# Altium integrated library esp32d.IntLib: 29 symbols
Pins are listed as number, name and electrical type; pins without a type are passive.

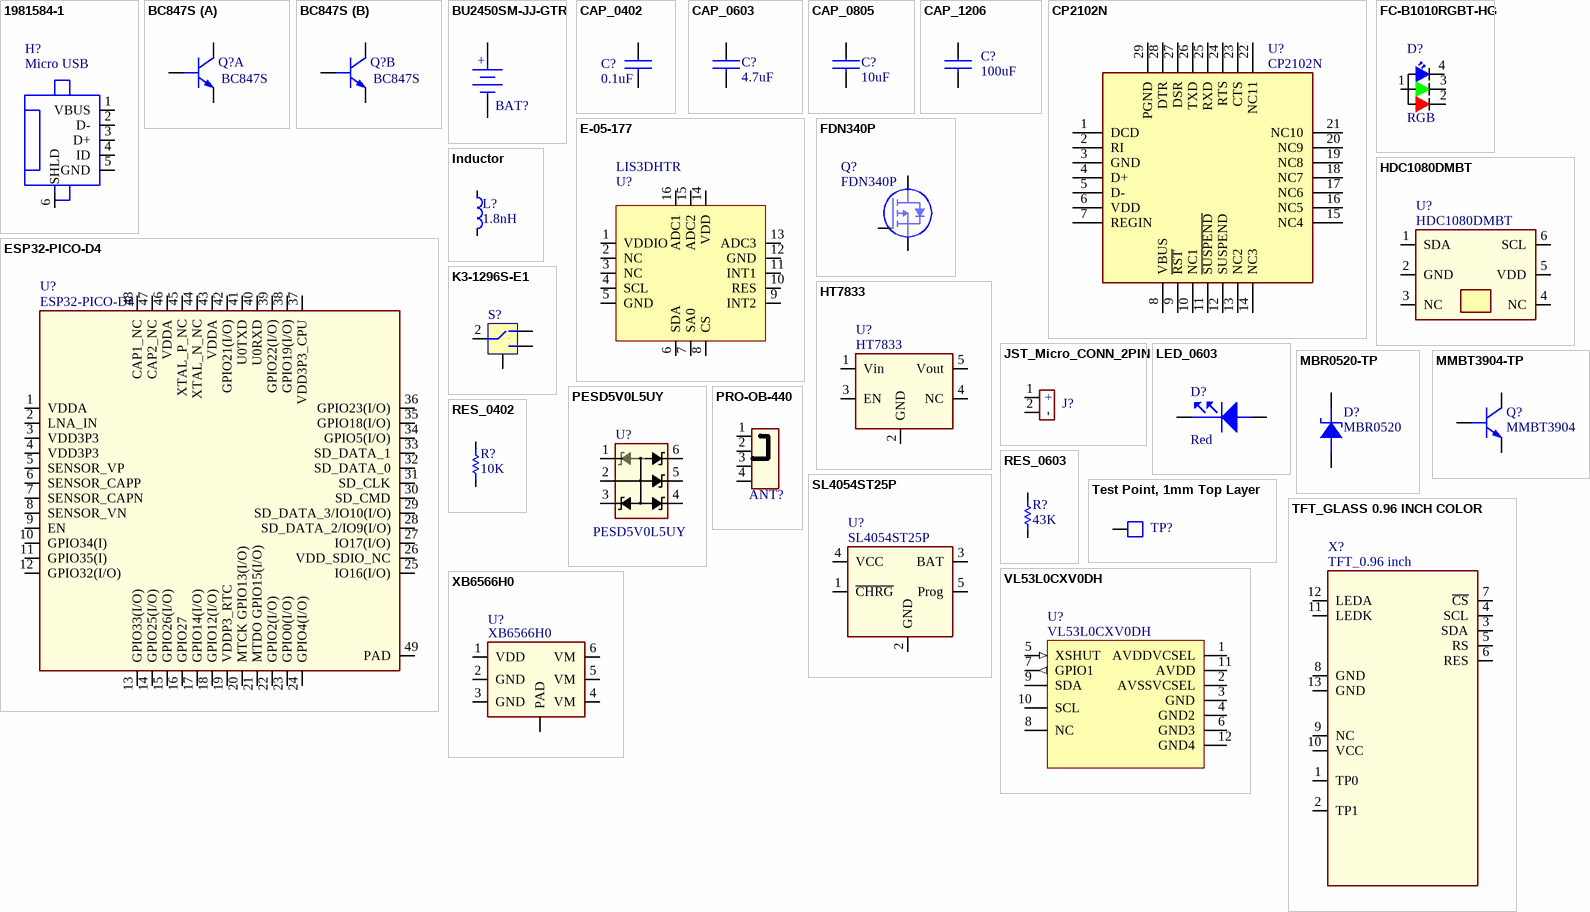
[diagram p0: symbols 1981584-1 to XB6566H0]

## 1981584-1
designator H?, comment Micro USB
CONN RCPT MICRO USB TYPE AB; Manufacturer: REG CON; PartNumber: C21377; Vendor: LCSC; Value: Micro USB
footprint 1981584-1 (CONN RCPT MICRO USB TYPE AB)
pins: 1 VBUS (power), 2 D-, 3 D+, 4 ID, 5 GND (power), 6 SHLD (power)

## BC847S
designator Q?
TRANS 2NPN 44V 0.1A SC-70-6; Manufacturer: Changjiang; Vendor: LCSC; PartNumber: BC847S; Value: 2NPN
footprint SOT65P210X110-6N (SC70, 6-Leads, Body 2.4x2.2mm (max), Pitch 0.65mm, IPC Medium Density)
part A pins: 1 E1, 2 B1, 6 C1
part B pins: 3 C2, 4 E2, 5 B2

## BU2450SM-JJ-GTR
designator BAT?, comment BATTERY-HOLDER (2450)  (value not drawn)
HOLDER,BATT,COIN,24.5MM,SMT; PartNumber: BU2450SM-JJ-GTR; Manufacturer: MPD; Value: Coin Cell Holder; Vendor: LCSC
footprint BU2450SM-JJ-GTR (HOLDER,BATT,COIN,24.5MM,SMT)
pins: 1 + (power), 2 - (power)

## CAP_0402
designator C?, comment 0.1uF
CAP CER 0.1uF 0402; PartNumber: TCC0402X5R104M160AT; Manufacturer: CCTC; Vendor: LCSC; Value: 0.1uF
footprint CAPC1005X56N (Chip Capacitor, 2-Leads, Body 1.0x0.5mm, IPC Medium Density (0402 ceramic))
pins: 1, 2

## CAP_0603
designator C?, comment 4.7uF
CAP CER 4.7uF 16V 0402; Vendor: LCSC; Value: 4.7uF
footprint CAPC1005X56N (Chip Capacitor, 2-Leads, Body 1.0x0.5mm, IPC Medium Density (0402 ceramic))
pins: 1, 2

## CAP_0805
designator C?, comment 10uF
CAP CER 10uF 16V 0805; PartNumber: CL21A106KOQNNNG; Manufacturer: Samsung; Vendor: LCSC; Value: 10uF
footprint CAPC2012X140N (Chip Capacitor, 2-Leads, Body 2.0x1.3mm, IPC Medium Density (0805 ceramic))
pins: 1, 2

## CAP_1206
designator C?, comment 100uF
CAP CER 100uF 6.3V 1206; PartNumber: JMK316BJ107ML-T; Manufacturer: Taiyo Yuden; Vendor: LCSC; Value: 100uF
footprint CAPC3216X160L (Chip Capacitor, 2-Leads, Body 3.2x1.6mm, IPC Least Density(C1206))
pins: 1, 2

## CP2102N
designator U?
IC BRIDGE USB TO UART 28QFN; Manufacturer: Silicon Labs; PartNumber: CP2102N-A01-GQFN28; Vendor: LCSC; Value: CP2102N
footprint 28-QFN (QFN, 28-Leads, Body 5.00x5.00mm, Pitch 0.50mm, Thermal Pad 3.15x3.15mm, IPC Medium Density)
pins: 1 DCD "Clear To Send Control Input / Handshake Signal.", 2 RI "Clear To Send Control Input / Handshake Signal.", 3 GND (power) "Clear To Send Control Input / Handshake Signal.", 4 D+ "Clear To Send Control Input / Handshake Signal.", 5 D- "Clear To Send Control Input / Handshake Signal.", 6 VDD (power) "Clear To Send Control Input / Handshake Signal.", 7 REGIN "Clear To Send Control Input / Handshake Signal.", 8 VBUS (power) "Clear To Send Control Input / Handshake Signal.", 9 ~{RST} "Clear To Send Control Input / Handshake Signal.", 10 NC1 "Clear To Send Control Input / Handshake Signal.", 11 ~{SUSPEND} "Clear To Send Control Input / Handshake Signal.", 12 SUSPEND "Clear To Send Control Input / Handshake Signal.", 13 NC2 "Clear To Send Control Input / Handshake Signal.", 14 NC3 "Clear To Send Control Input / Handshake Signal.", 15 NC4 "Clear To Send Control Input / Handshake Signal.", 16 NC5 "Clear To Send Control Input / Handshake Signal.", 17 NC6 "Clear To Send Control Input / Handshake Signal.", 18 NC7 "Clear To Send Control Input / Handshake Signal.", 19 NC8 "Clear To Send Control Input / Handshake Signal.", 20 NC9 "Clear To Send Control Input / Handshake Signal.", 21 NC10 "Clear To Send Control Input / Handshake Signal.", 22 NC11 "Clear To Send Control Input / Handshake Signal.", 23 CTS "Clear To Send Control Input / Handshake Signal.", 24 RTS "Clear To Send Control Input / Handshake Signal.", 25 RXD "Clear To Send Control Input / Handshake Signal.", 26 TXD "Clear To Send Control Input / Handshake Signal.", 27 DSR "Clear To Send Control Input / Handshake Signal.", 28 DTR "Clear To Send Control Input / Handshake Signal.", 29 PGND "Clear To Send Control Input / Handshake Signal."

## E-05-177
designator U?, comment LIS3DHTR
IC ACCEL 2-16G I2C/SPI 16LGA; Manufacturer: STMicro; Vendor: LCSC; PartNumber: LIS3DHTR; Value: LIS3DHTR
footprint QFN3X3_16_1.2
pins: 1 VDDIO (power), 2 NC, 3 NC, 4 SCL, 5 GND (power), 6 SDA, 7 SA0, 8 CS, 9 INT2, 10 RES, 11 INT1, 12 GND (power), 13 ADC3, 14 VDD (power), 15 ADC2, 16 ADC1

## ESP32-PICO-D4
designator U?
RF Transceiver ICs QFN-48_7x7x05P RoHS; Manufacturer: Espressif; Vendor: LCSC; Value: ESP32-PICO-D4; PartNumber: ESP32-PICO-D4
footprint QFN48 (QFN, 48-Leads, Body 7x7mm, Pitch 0.5mm, IPC Medium Density)
pins: 1 VDDA (power), 2 LNA_IN, 3 VDD3P3 (power), 4 VDD3P3 (power), 5 SENSOR_VP, 6 SENSOR_CAPP, 7 SENSOR_CAPN, 8 SENSOR_VN, 9 EN, 10 GPIO34(I), 11 GPIO35(I), 12 GPIO32(I/O), 13 GPIO33(I/O), 14 GPIO25(I/O), 15 GPIO26(I/O), 16 GPIO27, 17 GPIO14(I/O), 18 GPIO12(I/O), 19 VDDP3_RTC, 20 MTCK GPIO13(I/O), 21 MTDO GPIO15(I/O), 22 GPIO2(I/O), 23 GPIO0(I/O), 24 GPIO4(I/O), 25 IO16(I/O), 26 VDD_SDIO_NC (power), 27 IO17(I/O), 28 SD_DATA_2/IO9(I/O), 29 SD_DATA_3/IO10(I/O), 30 SD_CMD, 31 SD_CLK, 32 SD_DATA_0, 33 SD_DATA_1, 34 GPIO5(I/O), 35 GPIO18(I/O), 36 GPIO23(I/O), 37 VDD3P3_CPU (power), 38 GPIO19(I/O), 39 GPIO22(I/O), 40 U0RXD, 41 U0TXD, 42 GPIO21(I/O), 43 VDDA (power), 44 XTAL_N_NC, 45 XTAL_P_NC, 46 VDDA (power), 47 CAP2_NC, 48 CAP1_NC, 49 PAD (power)

## FC-B1010RGBT-HG
designator D?, comment RGB
LED,RGB LED,SMD,RoHS; PartNumber: FC-B1010RGBT-HG; Manufacturer: Foshan; Vendor: LCSC; Value: RGB Led
footprint FC-B1010RGBT-HG (LED,RGB,SMD,RoHS)
pins: 1, 2, 3, 4

## FDN340P
designator Q?
MOSFET P-CH 20V 2A SOT-23; Manufacturer: On Semi; Vendor: LCSC; Value: Mosfet P-H; PartNumber: FDN340P
footprint SOT95P240X110-3N (SOT23, 3-Leads, Body 3.0x2.5mm (max), Pitch 0.95mm, IPC Medium Density)
pins: 1 G, 2 S, 3 D

## HDC1080DMBT
designator U?
Humidity/Temperature Sensor; Manufacturer: Texas Instruments; Vendor: LCSC; Value: Humidity/Temperature; PartNumber: HDC1080DMBT
footprint HDC1080 (Temp/Humidity Sensor)
pins: 1 SDA, 2 GND (power), 3 NC, 4 NC, 5 VDD (power), 6 SCL

## HT7833
designator U?
IC LDO 3.3V 0.5A SOT23-5; Manufacturer: Holtek; Vendor: LCSC; PartNumber: HT7833; Value: LDO 3.3V
footprint SOT95P280X144-5N (SOT23, 5-Leads, Body 3.1x3.0mm (max), Pitch 0.95mm, IPC Medium Density (RFMD SOT-5))
pins: 1 Vin, 2 GND (power), 3 EN, 4 NC, 5 Vout

## Inductor
designator L?  value 1.8nH  (hidden comment: Inductor)
Inductor 1.8nH 0402; PartNumber: BKW0603UC1N8KGT; Manufacturer: GFBE; Vendor: LCSC
footprint RESC1005X40L (Chip Resistor, 2-Leads, Body 1.0x0.5mm, IPC Medium Density (0402))
pins: 1, 2

## JST_Micro_CONN_2PIN
designator J?, comment CON2  (value not drawn)  (no BOM)
JST MIcro CONN 2POS
footprint JST_Micro_2PIN
pins: 1, 2
text: +; -

## K3-1296S-E1
designator S?, comment SWITCH SLIDE  (value not drawn)
SWITCH SLIDE SMD; Manufacturer: Korean Hroparts Elec; PartNumber: K3-1296S-E1; Vendor: LCSC; Value: SWITCH SLIDE
footprint K3-1296S-E1 (Toggle Switches SMD RoHS)
pins: 1, 2, 3, 4

## LED_0603
designator D?  value Red  (hidden comment: LED_0603)
LED RED CLEAR 0603 SMD; Manufacturer: FNO; PartNumber: FC-DA1608HRK-620D; Vendor: LCSC
footprint LED1608X55N-GREEN (Chip LED GREEN 2-Leads, Body 1.6x0.8mm, IPC Medium Density (0603 med))
footprint LED1608X55N-RED (Chip LED RED, 2-Leads, Body 1.6x0.8mm, IPC Medium Density (0603 med))
footprint LED1608X55N-YELLOW (Chip LED YELLOW, 2-Leads, Body 1.6x0.8mm, IPC Medium Density (0603 med))
footprint LED1608X55N_LARGE-YELLOW - duplicate (Chip LED YELLOW, 2-Leads, Body 1.6x0.8mm, IPC Medium Density (0603 med))
pins: 1 CATHODE, 2 ANODE

## MBR0520-TP
designator D?, comment MBR0520
DIODE SCHOTTKY 20V 500MA SOD123; Manufacturer: CJ; Vendor: LCSC; PartNumber: MBR0520; Value: MBR0520
footprint SOD123 (Molded Diode, 2-Leads, Body 2.85x1.8mm, IPC Medium Density (SOD123))
pins: 1 Cathode, 2 Annode

## MMBT3904-TP
designator Q?, comment MMBT3904
TRANSISTOR NPN GP 40V SOT23; Manufacturer: Micro Commercial; PartNumber: MMBT3904-TP; Value: MMBT3904
footprint SOT95P240X110-3N (SOT23, 3-Leads, Body 3.0x2.5mm (max), Pitch 0.95mm, IPC Medium Density)
pins: 1 B, 2 E, 3 C

## PESD5V0L5UY
designator U?
TVS SOT-363 RoHS; Manufacturer: Yenji; Vendor: LCSC; Value: ESD; PartNumber: PESD5V0L5UY
footprint SOT65P210X110-6N (SC70, 6-Leads, Body 2.4x2.2mm (max), Pitch 0.65mm, IPC Medium Density)
pins: 1, 2, 3, 4, 5, 6

## PRO-OB-440
designator ANT?, comment RF ANT 2.4GHZ STAMPED MET SLD  (value not drawn)
Manufacturer: Proant AB; PartNumber: PRO-OB-440; Vendor: Digi-Key; Value: RF ANT 2.4GHZ STAMPED MET SLD
footprint PRO-OB-440 (RF ANT 2.4GHZ STAMPED MET SLD)
pins: 1, 2, 3, 4

## RES_0402
designator R?, comment 10K
RES SMD 10K OHM 0402; PartNumber: RC-02W1002FT; Manufacturer: Guangdong; Vendor: LCSC; Value: 10K
footprint RESC1005X40L (Chip Resistor, 2-Leads, Body 1.0x0.5mm, IPC Medium Density (0402))
pins: 1, 2

## RES_0603
designator R?, comment 43K
RES SMD 43K OHM 0402; Manufacturer: Uniroyal; PartNumber: 0402WGF4302TCE; Vendor: LCSC; Value: 43K
footprint RESC1005X40L (Chip Resistor, 2-Leads, Body 1.0x0.5mm, IPC Medium Density (0402))
pins: 1, 2

## SL4054ST25P
designator U?
Charger IC Lithium-Ion/Polymer SOT23-5; Manufacturer: Techfuse; Vendor: LCSC; PartNumber: SL4054ST25P; Value: SL4054ST25P
footprint SOT95P280X144-5N (SOT23, 5-Leads, Body 3.1x3.0mm (max), Pitch 0.95mm, IPC Medium Density (RFMD SOT-5))
pins: 1 ~{CHRG}, 2 GND (power), 3 BAT, 4 VCC, 5 Prog

## Test Point, 1mm Top Layer
designator TP?  (value not drawn)  (no BOM)
PartNumber: N/A; Manufacturer: N/A
footprint TP100TL (Test Point)
pins: 1

## TFT_GLASS 0.96 INCH COLOR
designator X?, comment TFT_0.96 inch
0.96 INCH TFT GLASS COLOR; PartNumber: ER-TFT0.96-1; Manufacturer: BuyDisplay; Vendor: BuyDisplay; Value: *
footprint TFT_GLASS 0.96 INCH
pins: 1 TP0, 2 TP1, 3 SDA, 4 SCL, 5 RS, 6 RES, 7 ~{CS}, 8 GND (power), 9 NC, 10 VCC (power), 11 LEDK, 12 LEDA, 13 GND (power)

## VL53L0CXV0DH
designator U?
IC,LASER SENSOR,12pin; Manufacturer: ST MICRO; Part Number: VL53L0CXV0DH/1
footprint VL53L0CXV0DH (IC,LASER SENSOR,12pin)
pins: 1 AVDDVCSEL (power), 2 AVSSVCSEL (power), 3 GND (power), 4 GND2 (power), 5 XSHUT (in), 6 GND3 (power), 7 GPIO1 (out), 8 NC, 9 SDA, 10 SCL, 11 AVDD (power), 12 GND4 (power)

## XB6566H0
designator U?
IC Battery Protection; Manufacturer: XySemi; Vendor: LCSC; PartNumber: XB6566H0; Value: Battery Protection
footprint DFN-6 2x2mm (DFN, 6-Leads, Body 2.00x2.00mm, Pitch 0.65mm, IPC High Density)
pins: 1 VDD (power), 2 GND (power), 3 GND (power), 4 VM, 5 VM, 6 VM, 7 PAD